# Altium schematic symbol library ldc-hw-library-schematic.SchLib: 26 symbols
Pins are listed as number, name and electrical type; pins without a type are passive.

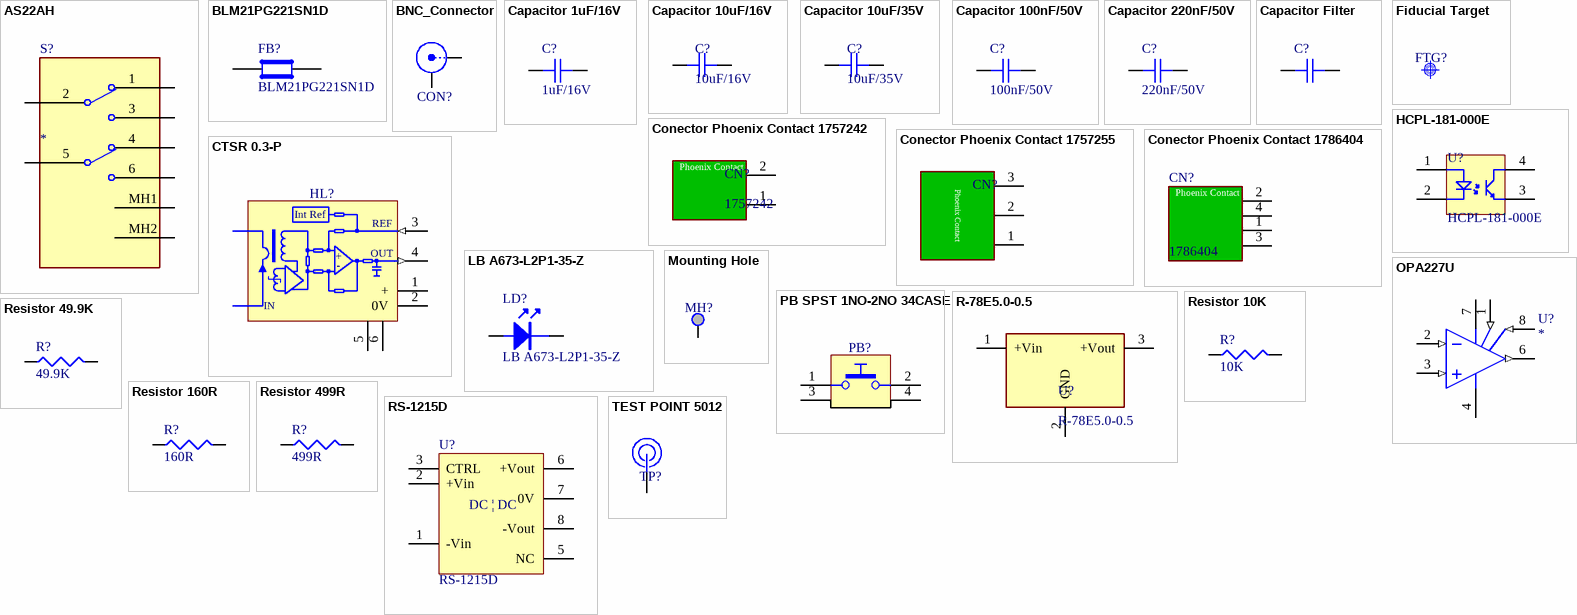
[diagram p0: symbols AS22AH to TEST POINT 5012]

## AS22AH
designator S?
Switch Slide ON None ON DPDT; Manufacturer: NKK Switches; Manufacturer Part Number: AS22AH; Actuator Material: Nylon,Glass,Polyamide,Glass fibre; Mechanical Life: 50000Cycles; Max Current Rating: 100mA; Voltage Rating (AC): 28V; Operating Force: 260gf; Contact Style: Non-Shorting; Switch Travel: 2.5mm; Switch Function: On-On; Actuator Type: Standard; Código LNLS: MC115904; Supplier 1: Digi-Key; RoHS: Yes; Category: Slide Switches; Stock 1: 1475; Pricing 1: 1=6,09000, 10=5,55700, 25=5,05440, 100=4,36620, 300=3,96930, 500=3,67822, 1000=3,41360, 2400=3,27500 (USD); Mount: Through Hole; Contact Material: Bronze; Contact Plating: Gold; Min Operating Temperature: -30°C; Max Operating Temperature: 85°C; Throw Configuration: DPDT; Package Quantity: 1; Max Voltage Rating (AC): 28V; Max Voltage Rating (DC): 28V; Packaging: Tray; Termination: PC Pins; Voltage Rating (DC): 28V; Electrical Life: 50000Cycles; Switching Voltage: 28V; Series: AS; Length: 9.8mm; Depth: 15.2mm; Actuator Length: 2.5mm; Lead Free: Lead Free; RoHS Compliant: Yes; ComponentLink1URL: https://datasheet.ciiva.com/15184/getdatasheetpartid-450041-15184194.pdf?src-supplier=Verical; ComponentLink1Description: https://datasheet.ciiva.com/15184/getdatasheetpartid-450041-15184194.pdf?src-supplier=Verical; ComponentLink2URL: https://datasheet.ciiva.com/26326/702195-da-01-en-schiebes-dpdt-on-on-re-gew-anschl-b-26326751.pdf?src-supplier=Conrad; ComponentLink2Description: https://datasheet.ciiva.com/26326/702195-da-01-en-schiebes-dpdt-on-on-re-gew-anschl-b-26326751.pdf?src-supplier=Conrad; Supplier Part Number 1: 360-2128-ND
footprint AS22AH
pins: 1 NC_1, 2 COM_1, 3 NO_1, 4 NC_2, 5 COM_2, 6 NO_2, MH1, MH2

## BLM21PG221SN1D
designator FB?
FERRITE BEAD 220 OHM 0805 1LN; Manufacturer: Murata; Material: Steel,Ferrite; Impedance: 220R; Tolerance: 25%; Max Current Rating: 2A; Number of Lines: 1; DC Resistance (DCR): 45mR; Test Frequency: 100MHz; Shielding: Unshielded; Código LNLS: AP105046; Manufacturer Part Number: BLM21PG221SN1D; Stock 1: 879222; Pricing 1: 1=0.1, 10=0.081, 25=0.0732, 50=0.0538, 100=0.0464, 250=0.0366, 500=0.0309, 1000=0.0261 (USD); Case/Package: 0805; Number of Pins: 2; Core Material: Ferrite; Case Code (Metric): 2012; Case Code (Imperial): 0805; Contact Plating: Tin,Matte; Min Operating Temperature: -55°C; Max Operating Temperature: 125°C; Package Quantity: 1; Packaging: Tape and Reel; Current Rating: 2A; Max DC Current: 2A; Termination: SMD/SMT; DC Current: 2A; Military Standard: Not; Frequency: 100MHz; Number of Circuits: 1; Current: 2A; Length: 2mm; Height: 0.85mm; Width: 1.25mm; Depth: 1.25mm; Radiation Hardening: No; REACH SVHC: No SVHC; Lead Free: Lead Free; ComponentLink1URL: https://datasheet.ciiva.com/1012/l0110s0100blm21p-1012288.pdf; ComponentLink1Description: https://datasheet.ciiva.com/1012/l0110s0100blm21p-1012288.pdf; ComponentLink2URL: https://datasheet.ciiva.com/11799/0900766b81275e31-11799232.pdf; ComponentLink2Description: https://datasheet.ciiva.com/11799/0900766b81275e31-11799232.pdf; ComponentLink3URL: https://datasheet.ciiva.com/1012/l0110s0100blm21p-1012289.pdf; ComponentLink3Description: https://datasheet.ciiva.com/1012/l0110s0100blm21p-1012289.pdf; ComponentLink4URL: https://datasheet.ciiva.com/14122/anblm21p-data-e-14122214.pdf; ComponentLink4Description: https://datasheet.ciiva.com/14122/anblm21p-data-e-14122214.pdf; ComponentLink5URL: https://datasheet.ciiva.com/3081/l0110s0100blm21p-3081655.pdf; ComponentLink5Description: https://datasheet.ciiva.com/3081/l0110s0100blm21p-3081655.pdf; ComponentLink6URL: https://datasheet.ciiva.com/3081/l0110s0100blm21p-3081656.pdf; ComponentLink6Description: https://datasheet.ciiva.com/3081/l0110s0100blm21p-3081656.pdf; ComponentLink7URL: https://datasheet.ciiva.com/16215/l0110s0100blm21p-16215194.pdf; ComponentLink7Description: https://datasheet.ciiva.com/16215/l0110s0100blm21p-16215194.pdf; ComponentLink8URL: https://datasheet.ciiva.com/8021/1756152-8021596.pdf; ComponentLink8Description: https://datasheet.ciiva.com/8021/1756152-8021596.pdf; ComponentLink9URL: https://datasheet.ciiva.com/30514/1845321-30514028.pdf; ComponentLink9Description: https://datasheet.ciiva.com/30514/1845321-30514028.pdf; ComponentLink10URL: https://datasheet.ciiva.com/8021/1756152-8021598.pdf; ComponentLink10Description: https://datasheet.ciiva.com/8021/1756152-8021598.pdf; ComponentLink11URL: https://datasheet.ciiva.com/1012/l0110s0100blm21p-1012287.pdf; ComponentLink11Description: https://datasheet.ciiva.com/1012/l0110s0100blm21p-1012287.pdf; ComponentLink12URL: https://datasheet.ciiva.com/29348/442529-da-01-en-chip-drossel-0805-220r-2000ma-2-0x1-25mm-29348007.pdf; ComponentLink12Description: https://datasheet.ciiva.com/29348/442529-da-01-en-chip-drossel-0805-220r-2000ma-2-0x1-25mm-29348007.pdf; Supplier 1: RSComponents; Supplier Part Number 1: 7241532P
footprint Ferrite_Bead_0805
pins: 1, 2

## BNC_Connector
designator CON?  (value not drawn)
Connector BNC Female 0Hz To 2GHz 50 Ohm Solder Right Angle Through Hole Gold Tray; Manufacturer: Molex; Manufacturer Part Number: 0731375003; Body Material: ZINC ALLOY; Body Plating: Nickel; Dielectric Material: PP; Center Contact Plating: Tin; Frequency: 2Hz; Impedance: 50R; Connector Type: BNC,Receptacle; Operating Frequency: 0 to 2Hz; Código LNLS: AP107369; ComponentLink1Description: Datasheet; Supplier 1: Digi-Key; RoHS: Yes; Category: RF / Coaxial Connectors; Stock 1: 5198; Pricing 1: 1=2,54000, 10=2,16200, 80=1,78600, 945=1,41000, 2400=1,31600 (USD); Mount: Through Hole,Panel,Bulkhead; Contact Plating: Gold; Contact Material: Bronze; Insulation Material: Polyester; Housing Color: Black; Min Operating Temperature: -20°C; Max Operating Temperature: 70°C; Packaging: Bulk; Package Quantity: 384; Termination: Solder; Orientation: Right Angle; Series: 73137; Fastening Type: Bayonet; Length: 35.18mm; Depth: 14.76mm; ComponentLink2URL: https://datasheet.ciiva.com/7002/731375003-sd-7002562.pdf?src-supplier=Digi-Key; ComponentLink2Description: https://datasheet.ciiva.com/7002/731375003-sd-7002562.pdf?src-supplier=Digi-Key; Supplier Part Number 1: WM5514-ND
footprint BNC_RIGHTANGLE (BNC Jack Female Socket Right Angle)
pins: 1 X, 2 Y

## Capacitor 1uF/16V
designator C?, comment 1uF/16V
CAP CER 1UF 16V X7R 0603; Manufacturer: TDK; Manufacturer Part Number: C1608X7R1C105K080AC; Dielectric Material: Ceramic; Tolerance: 10%; Código LNLS: AP105441; Supplier 1: Newark; RoHS: Yes; Category: Ceramic Capacitors; Stock 1: 68000; Pricing 1: 1=0,02900, 4000=0,02800, 8000=0,02600 (USD); Mount: Surface Mount; Case/Package: 0603; Case Code (Metric): 1608; Case Code (Imperial): 0603; Weight: 7.1E-05oz; Min Operating Temperature: -55°C; Max Operating Temperature: 125°C; Capacitance: 1uF; Dielectric: X7R; Voltage Rating: 16V; Packaging: Tape and Reel; Package Quantity: 1; Voltage Rating (DC): 16V; Termination: SMD/SMT; Voltage: 16V; Series: C; Construction: Flat; Resistor Type: Ceramic; Length: 1.6mm; Width: 0.031inch; Height: 0.8mm; Depth: 0.8mm; Thickness: 0.037inch; Radiation Hardening: No; REACH SVHC: No SVHC; Lead Free: Lead Free; RoHS Compliant: Yes; ComponentLink1URL: https://datasheet.ciiva.com/11788/0900766b80c1bb00-11788075.pdf?src-supplier=RSComponents; ComponentLink1Description: https://datasheet.ciiva.com/11788/0900766b80c1bb00-11788075.pdf?src-supplier=RSComponents; ComponentLink2URL: https://datasheet.ciiva.com/22648/1796654-22648704.pdf?src-supplier=Element14; ComponentLink2Description: https://datasheet.ciiva.com/22648/1796654-22648704.pdf?src-supplier=Element14; ComponentLink3URL: https://datasheet.ciiva.com/6156/1571323-6156168.pdf?src-supplier=Farnell; ComponentLink3Description: https://datasheet.ciiva.com/6156/1571323-6156168.pdf?src-supplier=Farnell; ComponentLink4URL: https://datasheet.ciiva.com/6250/tdkmlcccaprange-6250871.pdf?src-supplier=Digi-Key; ComponentLink4Description: https://datasheet.ciiva.com/6250/tdkmlcccaprange-6250871.pdf?src-supplier=Digi-Key; ComponentLink5URL: https://datasheet.ciiva.com/48671/e412-c-48671305.pdf?src-supplier=Avnet; ComponentLink5Description: https://datasheet.ciiva.com/48671/e412-c-48671305.pdf?src-supplier=Avnet; ComponentLink6URL: https://datasheet.ciiva.com/26285/3025c1608x7r1c105k080ac-26285242.pdf?src-supplier=Onlinecomponents.com; ComponentLink6Description: https://datasheet.ciiva.com/26285/3025c1608x7r1c105k080ac-26285242.pdf?src-supplier=Onlinecomponents.com; ComponentLink7URL: https://datasheet.ciiva.com/22694/1796654-22694127.pdf?src-supplier=Element14; ComponentLink7Description: https://datasheet.ciiva.com/22694/1796654-22694127.pdf?src-supplier=Element14; ComponentLink8URL: https://datasheet.ciiva.com/22749/1744655-22749595.pdf?src-supplier=Element14; ComponentLink8Description: https://datasheet.ciiva.com/22749/1744655-22749595.pdf?src-supplier=Element14; ComponentLink9URL: https://datasheet.ciiva.com/16199/e412-c-16199815.pdf?src-supplier=Future+Electronics; ComponentLink9Description: https://datasheet.ciiva.com/16199/e412-c-16199815.pdf?src-supplier=Future+Electronics; ComponentLink10URL: https://datasheet.ciiva.com/15192/getdatasheetpartid-715881-15192029.pdf?src-supplier=Verical; ComponentLink10Description: https://datasheet.ciiva.com/15192/getdatasheetpartid-715881-15192029.pdf?src-supplier=Verical; ComponentLink11URL: https://datasheet.ciiva.com/17487/e412-c-17487343.pdf?src-supplier=Avnet+Europe; ComponentLink11Description: https://datasheet.ciiva.com/17487/e412-c-17487343.pdf?src-supplier=Avnet+Europe; Supplier Part Number 1: 87R3669
footprint C0603
pins: 1, 2

## Capacitor 10uF/16V
designator C?, comment 10uF/16V
CAP CER 10UF 16V X5R 0603; Manufacturer: TDK; Manufacturer Part Number: C1608X5R1C106M080AB; Dielectric Material: Ceramic; Tolerance: 20%; Código LNLS: AP105460; Supplier 1: Digi-Key; Stock 1: 85682; Pricing 1: 1=0.75, 10=0.553, 100=0.3795, 500=0.3004, 1000=0.253 (USD); Case/Package: 0603; Weight: 7.1E-05oz; Case Code (Metric): 1608; Case Code (Imperial): 0603; Min Operating Temperature: -55°C; Max Operating Temperature: 85°C; Package Quantity: 4000; Capacitance: 10uF; Voltage Rating: 16V; Packaging: Tape and Reel; Voltage Rating (DC): 16V; Dielectric: X5R; Termination: SMD/SMT; Composition: Ceramic; Length: 1.6mm; Height: 0.8mm; Width: 0.031inch; Thickness: 0.039inch; Depth: 0.8mm; Radiation Hardening: No; REACH SVHC: No SVHC; Lead Free: Lead Free; ComponentLink1URL: https://datasheet.ciiva.com/26946/getdatasheetpartid-727879-26946512.pdf; ComponentLink1Description: https://datasheet.ciiva.com/26946/getdatasheetpartid-727879-26946512.pdf; ComponentLink2URL: https://datasheet.ciiva.com/24216/mlcc-commercial-general-en-24216005.pdf; ComponentLink2Description: https://datasheet.ciiva.com/24216/mlcc-commercial-general-en-24216005.pdf; ComponentLink3URL: https://datasheet.ciiva.com/16449/mlcc-commercial-general-en-16449581.pdf; ComponentLink3Description: https://datasheet.ciiva.com/16449/mlcc-commercial-general-en-16449581.pdf; Supplier Part Number 1: 445-9065-1-ND
footprint C0603
pins: 1, 2

## Capacitor 10uF/35V
designator C?, comment 10uF/35V
CAP CER 10UF 35V X5R 0805; Manufacturer: TDK; Manufacturer Part Number: C2012X5R1V106K085AC; Dielectric Material: Ceramic; Tolerance: 10%; Código LNLS: AP105062; Supplier 1: Digi-Key; Stock 1: 56135; Pricing 1: 1=0.73, 10=0.519, 100=0.3416, 500=0.253, 1000=0.2151 (USD); Case/Package: 0805; Weight: 0.000194oz; Case Code (Metric): 2012; Case Code (Imperial): 0805; Min Operating Temperature: -55°C; Max Operating Temperature: 85°C; Package Quantity: 1; Packaging: Tape and Reel; Capacitance: 10uF; Voltage Rating: 35V; Dielectric: X5R; Termination: SMD/SMT; Voltage Rating (DC): 35V; Length: 0.079inch; Height: 0.85mm; Width: 0.049inch; Thickness: 0.039inch; REACH SVHC: No SVHC; Lead Free: Lead Free; ComponentLink1URL: https://datasheet.ciiva.com/14894/tdkmlcccaprange-14894527.pdf; ComponentLink1Description: https://datasheet.ciiva.com/14894/tdkmlcccaprange-14894527.pdf; Supplier Part Number 1: 445-14417-1-ND
footprint C0805
pins: 1, 2

## Capacitor 100nF/50V
designator C?, comment 100nF/50V
CAP CER 0.1UF 50V X7R 0603; Manufacturer: TDK; Manufacturer Part Number: C1608X7R1H104K080AA; Dielectric Material: Ceramic; Capacitance: 100nF; Tolerance: 10%; Código LNLS: AP107349; Supplier 1: Digi-Key; RoHS: Yes; Category: Ceramic Capacitors; Stock 1: 4478231; Pricing 1: 1=0,11000, 10=0,08000, 50=0,04520, 100=0,03750, 500=0,02630, 1000=0,02178 (USD); Mount: Surface Mount; Case/Package: 0603; Number of Pins: 2; Case Code (Imperial): 0603; Case Code (Metric): 1608; Weight: 7.1E-05oz; Min Operating Temperature: -55°C; Max Operating Temperature: 125°C; Dielectric: X7R; Voltage Rating: 50V; Packaging: Tape and Reel; Package Quantity: 1; Termination: SMD/SMT; Voltage: 50V; Construction: Flat; Voltage Rating (DC): 50V; Resistor Type: Ceramic; Series: C; Length: 1.6mm; Width: 0.031inch; Height: 0.8mm; Depth: 0.8mm; Thickness: 0.037inch; Radiation Hardening: No; REACH SVHC: No SVHC; RoHS Compliant: Yes; Lead Free: Lead Free; ComponentLink1URL: https://datasheet.ciiva.com/14498/1756137-14498091.pdf?src-supplier=Farnell; ComponentLink1Description: https://datasheet.ciiva.com/14498/1756137-14498091.pdf?src-supplier=Farnell; ComponentLink2URL: https://datasheet.ciiva.com/11788/0900766b80c1bb00-11788073.pdf?src-supplier=RSComponents; ComponentLink2Description: https://datasheet.ciiva.com/11788/0900766b80c1bb00-11788073.pdf?src-supplier=RSComponents; ComponentLink3URL: https://datasheet.ciiva.com/6293/tdkmlcccaprange-6293190.pdf?src-supplier=Digi-Key; ComponentLink3Description: https://datasheet.ciiva.com/6293/tdkmlcccaprange-6293190.pdf?src-supplier=Digi-Key; ComponentLink4URL: https://datasheet.ciiva.com/6293/tdkmlcccaprange-6293193.pdf?src-supplier=Digi-Key; ComponentLink4Description: https://datasheet.ciiva.com/6293/tdkmlcccaprange-6293193.pdf?src-supplier=Digi-Key; ComponentLink5URL: https://datasheet.ciiva.com/6293/tdkmlcccaprange-6293194.pdf?src-supplier=Digi-Key; ComponentLink5Description: https://datasheet.ciiva.com/6293/tdkmlcccaprange-6293194.pdf?src-supplier=Digi-Key; ComponentLink6URL: https://datasheet.ciiva.com/22749/1744655-22749597.pdf?src-supplier=Element14; ComponentLink6Description: https://datasheet.ciiva.com/22749/1744655-22749597.pdf?src-supplier=Element14; ComponentLink7URL: https://datasheet.ciiva.com/17487/e412-c-17487370.pdf?src-supplier=Avnet+Europe; ComponentLink7Description: https://datasheet.ciiva.com/17487/e412-c-17487370.pdf?src-supplier=Avnet+Europe; Supplier Part Number 1: 445-1314-1-ND
footprint C0603
pins: 1, 2

## Capacitor 220nF/50V
designator C?, comment 220nF/50V
CAP CER 220NF 50V X7R 0805; Manufacturer: Murata; Manufacturer Part Number: GRM21BR71H224MA01L; Tolerance: 20%; Código LNLS: AP112018; Supplier 1: Digi-Key; RoHS: Yes; Category: Ceramic Capacitors; Stock 1: 27774; Pricing 1: 1=0,37000, 10=0,25200, 50=0,16800, 100=0,14270, 500=0,10074, 1000=0,08815 (USD); Mount: Surface Mount; Case/Package: 0805; Case Code (Metric): 2012; Case Code (Imperial): 0805; Min Operating Temperature: -55°C; Max Operating Temperature: 125°C; Package Quantity: 1; Capacitance: 220nF; Packaging: Tape and Reel; Voltage Rating: 50V; Dielectric: X7R; Termination: SMD/SMT; Voltage Rating (DC): 50V; Series: GRM; Construction: Flat; Length: 2mm; Width: 0.049inch; Height: 1.25mm; Thickness: 0.053inch; Depth: 1.25mm; Radiation Hardening: No; Lead Free: Lead Free; RoHS Compliant: Yes; ComponentLink1URL: https://datasheet.ciiva.com/5421/product-5421097.pdf?src-supplier=Mouser; ComponentLink1Description: https://datasheet.ciiva.com/5421/product-5421097.pdf?src-supplier=Mouser; ComponentLink2URL: https://datasheet.ciiva.com/136/partnumbering-e-01-136537.pdf?src-supplier=Digi-Key; ComponentLink2Description: https://datasheet.ciiva.com/136/partnumbering-e-01-136537.pdf?src-supplier=Digi-Key; ComponentLink3URL: https://datasheet.ciiva.com/136/partnumbering-e-01-136536.pdf?src-supplier=Digi-Key; ComponentLink3Description: https://datasheet.ciiva.com/136/partnumbering-e-01-136536.pdf?src-supplier=Digi-Key; ComponentLink4URL: https://datasheet.ciiva.com/136/partnumbering-e-01-136538.pdf?src-supplier=Digi-Key; ComponentLink4Description: https://datasheet.ciiva.com/136/partnumbering-e-01-136538.pdf?src-supplier=Digi-Key; Supplier Part Number 1: 490-1671-1-ND
footprint C0805
pins: 1, 2

## Capacitor Filter
designator C?
CAP CER 0805
footprint C0805 - Filter
pins: 1, 2

## Conector Phoenix Contact 1757242
designator CN?, comment 1757242
TERM BLOCK HDR 2POS 90DEG 5.08MM; Manufacturer: Phoenix Contact; Max Current Rating: 12A; Number of Poles: 2; Voltage Rating: 250V; Number of Levels: 1; Current: 15A; Voltage: 300V; Gender: Male; Voltage Rating (DC): 320V; Approvals: UL,CSA,VDE,EN; Código LNLS: MT106521; Supplier 1: Digi-Key; Manufacturer Part Number: 1757242; Stock 1: 5888; Pricing 1: 1=0.59, 10=0.564, 50=0.539, 100=0.5243, 250=0.49, 500=0.4508, 1000=0.4165, 2500=0.3969, 5000=0.3724 (USD); Mount: Through Hole; Weight: 5.396916oz; Contact Plating: Tin; Colour: Green,Grey; Housing Colour: Green; Housing Material: Polyamide; Current Rating: 12A; Package Quantity: 50; Packaging: Bulk; Number of Positions: 2; Termination: Solder; Number of Positions Per Level: 2; Number of Contacts: 2; Number of Rows: 1; Orientation: Right Angle; Length: 12.16mm; Pitch: 5.08mm; Width: 5.08mm; Depth: 12mm; REACH SVHC: No SVHC; Lead Free: Lead Free; Flammability Rating: UL94 V-0; ComponentLink1URL: https://datasheet.ciiva.com/15197/getdatasheetpartid-176350-15197328.pdf; ComponentLink1Description: https://datasheet.ciiva.com/15197/getdatasheetpartid-176350-15197328.pdf; ComponentLink2URL: https://datasheet.ciiva.com/16096/1757242-16096402.pdf; ComponentLink2Description: https://datasheet.ciiva.com/16096/1757242-16096402.pdf; ComponentLink3URL: https://datasheet.ciiva.com/7630/100955-7630839.pdf; ComponentLink3Description: https://datasheet.ciiva.com/7630/100955-7630839.pdf; ComponentLink4URL: https://datasheet.ciiva.com/795/1757242-795407.pdf; ComponentLink4Description: https://datasheet.ciiva.com/795/1757242-795407.pdf; ComponentLink5URL: https://datasheet.ciiva.com/33105/1757242-33105868.pdf; ComponentLink5Description: https://datasheet.ciiva.com/33105/1757242-33105868.pdf; ComponentLink6URL: https://datasheet.ciiva.com/29210/569017-da-01-en-grundgehaeuse-1757242-250-st-29210285.pdf; ComponentLink6Description: https://datasheet.ciiva.com/29210/569017-da-01-en-grundgehaeuse-1757242-250-st-29210285.pdf; Supplier Part Number 1: 277-1106-ND
footprint Conector Phoenix Contact 1757242
pins: 1, 2

## Conector Phoenix Contact 1757255
designator CN?, comment 1757255  (value not drawn)
TERM BLOCK HDR 3POS 90DEG 5.08MM; Manufacturer: Phoenix Contact; Max Current Rating: 12A; Number of Poles: 3; Voltage Rating: 250V; Number of Levels: 1; Current: 15A; Voltage: 300V; Gender: Male; Voltage Rating (DC): 320V; Connector Type: Plug; Approvals: UL,CSA,VDE,EN; Código LNLS: MT112921; Supplier 1: Digi-Key; Manufacturer Part Number: 1757255; Stock 1: 11643; Pricing 1: 1=0.98, 10=0.943, 50=0.902, 100=0.8774, 250=0.82, 500=0.7544, 1000=0.697, 2500=0.6642, 5000=0.6232 (USD); Mount: Through Hole; Weight: 5.396916oz; Colour: Green,Grey; Contact Plating: Tin; Housing Colour: Green; Housing Material: Polybutylene; Contact Material: Tin; Number of Rows: 1; Current Rating: 12A; Package Quantity: 50; Packaging: Bulk; Number of Positions: 3; Termination: Solder; Number of Positions Per Level: 3; Number of Contacts: 3; Orientation: Right Angle; Length: 17.24mm; Height: 12.1mm; Pitch: 5.08mm; Depth: 12mm; Width: 17.16mm; REACH SVHC: No SVHC; Lead Free: Lead Free; Flammability Rating: UL94 V-0; ComponentLink1URL: https://datasheet.ciiva.com/15197/getdatasheetpartid-176351-15197329.pdf; ComponentLink1Description: https://datasheet.ciiva.com/15197/getdatasheetpartid-176351-15197329.pdf; ComponentLink2URL: https://datasheet.ciiva.com/16096/1757255-16096404.pdf; ComponentLink2Description: https://datasheet.ciiva.com/16096/1757255-16096404.pdf; ComponentLink3URL: https://datasheet.ciiva.com/7630/1697152-7630840.pdf; ComponentLink3Description: https://datasheet.ciiva.com/7630/1697152-7630840.pdf; ComponentLink4URL: https://datasheet.ciiva.com/795/1757255-795421.pdf; ComponentLink4Description: https://datasheet.ciiva.com/795/1757255-795421.pdf; ComponentLink5URL: https://datasheet.ciiva.com/29210/569707-da-01-en-grundgehaeuse-1757255-250-st-29210878.pdf; ComponentLink5Description: https://datasheet.ciiva.com/29210/569707-da-01-en-grundgehaeuse-1757255-250-st-29210878.pdf; Supplier Part Number 1: 277-1107-ND
footprint Conector Phoenix Contact 1757255
pins: 1, 2, 3

## Conector Phoenix Contact 1786404
designator CN?, comment 1786404
PLUG TERM BLOCK HDR 2POS 90DEG 5.08MM; Manufacturer: Phoenix Contact; Voltage Rating: 320V; Current Rating: 12A; Number of Poles: 2; Number of Levels: 1; Current: 10A; Voltage: 300V; Connector Type: Socket; Approvals: UL,CSA,VDE,CB,GOST; Código LNLS: MC113986; Supplier 1: Digi-Key; Manufacturer Part Number: 1786404; RoHS: Yes; Category: Terminal Blocks; Stock 1: 2375; Pricing 1: 1=2,32000, 10=2,25800, 50=2,11000, 100=1,94120, 250=1,79348, 500=1,70910, 1000=1,62470 (USD); Mount: Through Hole; Color: Green; Contact Plating: Tin; Contact Material: Tin; Weight: 5.78493oz; Housing Color: Green; Housing Material: Polyamide; Packaging: Bulk; Series: IC; Package Quantity: 50; Termination: Solder; Number of Rows: 1; Number of Positions Per Level: 2; Max Current Rating: 12A; Number of Positions: 2; Number of Contacts: 2; Orientation: Right Angle; Type: Integrated Circuit (IC); Length: 12.16mm; Width: 19mm; Height: 13.7mm; Pitch: 5.08mm; Depth: 19mm; RoHS Compliant: Yes; Lead Free: Lead Free; Flammability Rating: UL94 V-0; ComponentLink1URL: https://datasheet.ciiva.com/16096/1786404-16096800.pdf?src-supplier=Onlinecomponents.com; ComponentLink1Description: https://datasheet.ciiva.com/16096/1786404-16096800.pdf?src-supplier=Onlinecomponents.com; ComponentLink2URL: https://datasheet.ciiva.com/6747/1786404-6747449.pdf?src-supplier=Digi-Key; ComponentLink2Description: https://datasheet.ciiva.com/6747/1786404-6747449.pdf?src-supplier=Digi-Key; ComponentLink3URL: https://datasheet.ciiva.com/11748/0900766b800b6097-11748807.pdf?src-supplier=RSComponents; ComponentLink3Description: https://datasheet.ciiva.com/11748/0900766b800b6097-11748807.pdf?src-supplier=RSComponents; ComponentLink4URL: https://datasheet.ciiva.com/29209/567660-da-01-de-grundgehaeuse-1786404-50-st-29209089.pdf?src-supplier=Conrad; ComponentLink4Description: https://datasheet.ciiva.com/29209/567660-da-01-de-grundgehaeuse-1786404-50-st-29209089.pdf?src-supplier=Conrad; Supplier Part Number 1: 277-5986-ND
footprint Conector Phoenix Contact 1786404
pins: 1, 2, 3, 4

## CTSR 0.3-P
designator HL?
SENSOR CURRENT FLUX 300MA AC/DC; Manufacturer: LEM; Manufacturer Part Number: CTSR0.3-P; Frequency: 3.5kHz; Operating Supply Voltage: 5.25V; Number of Channels: 1; Response Time: 50us; Max Supply Current: 21.6mA; Polarity: Bidirectional; Accuracy: 1.9%; Min Supply Voltage (DC): 4.75V; Linearity: 0.5%; Wire/Cable Diameter: 20.3mm; Overall Height: 44.6mm; Overall Depth: 17.9mm; Código LNLS: MC113908; Supplier 1: Digi-Key; RoHS: Yes; Category: Current Sensors; Stock 1: 1441; Pricing 1: 1=38,39000, 5=36,64400, 10=33,15500, 25=30,53760, 50=27,04760, 100=26,17500 (USD); Mount: Through Hole,PCB; Case/Package: Module; Min Operating Temperature: -40°C; Max Operating Temperature: 105°C; Packaging: Bulk; Package Quantity: 25; Max Supply Voltage (DC): 5.25V; Current Sensing: 300mA; Series: CTSR; REACH SVHC: No SVHC; ComponentLink1URL: https://datasheet.ciiva.com/2812/ctsr20series-2812567.pdf?src-supplier=Digi-Key; ComponentLink1Description: https://datasheet.ciiva.com/2812/ctsr20series-2812567.pdf?src-supplier=Digi-Key; ComponentLink2URL: https://datasheet.ciiva.com/30482/0900766b81272e9d-30482890.pdf?src-supplier=RSComponents; ComponentLink2Description: https://datasheet.ciiva.com/30482/0900766b81272e9d-30482890.pdf?src-supplier=RSComponents; Supplier Part Number 1: 398-1112-ND
footprint LEM_CTSR 0.3-P (LEM Current Transducer, Body 45x17.9mm, CTSR Series)
pins: 1 + (power), 2 0V (power), 3 REF (in), 4 OUT (out), 5 (power), 6 (power)
text: Int Ref; -; IN

## Fiducial Target
designator FTG?, comment Use only in PCB  (value not drawn)
Fiducial Target
footprint FIDUCIAL_TOP_C100-200 (Round Fiducial Target, Top Layer, 1.0mm, Top Solder 2.0mm, Keepout =2.0mm)

## HCPL-181-000E
designator U?
OPTOISO 3.75KV TRANSISTOR 4SOIC; Manufacturer: Broadcom Avago; Number of Channels: 1; Rise Time: 18000ns; Forward Voltage: 1.4V; Forward Current: 50mA; Collector Emitter Voltage (VCEO): 80V; Max Power Dissipation: 170mW; Reverse Breakdown Voltage: 6V; Collector Emitter Saturation Voltage: 200mV; Current Transfer Ratio: 600%; Approvals: UL,CSA,VDE; Código LNLS: MT106530; Supplier 1: Digi-Key; Manufacturer Part Number: HCPL-181-000E; Stock 1: 71062; Pricing 1: 1=0.61, 10=0.472, 25=0.3932, 100=0.3388, 250=0.3025, 500=0.2602, 1000=0.2009 (USD); Mount: Surface Mount; Case/Package: SOIC; Number of Pins: 4; Min Operating Temperature: -55°C; Max Operating Temperature: 100°C; Packaging: Tape and Reel; Max Output Voltage: 80V; Output Current per Channel: 50mA; Isolation Voltage: 3.75kV; Package Quantity: 1; Reverse Voltage (DC): 6V; Max Collector Current: 50mA; Fall Time: 18000ns; Max Input Current: 50mA; Number of Elements: 1; Power Dissipation: 170mW; Radiation Hardening: No; REACH SVHC: No SVHC; ComponentLink1URL: https://datasheet.ciiva.com/14169/hcpl-181-eng-tds-14169346.pdf; ComponentLink1Description: https://datasheet.ciiva.com/14169/hcpl-181-eng-tds-14169346.pdf; ComponentLink2URL: https://datasheet.ciiva.com/11772/0900766b80db8748-11772388.pdf; ComponentLink2Description: https://datasheet.ciiva.com/11772/0900766b80db8748-11772388.pdf; ComponentLink3URL: https://datasheet.ciiva.com/27052/1549927-27052468.pdf; ComponentLink3Description: https://datasheet.ciiva.com/27052/1549927-27052468.pdf; ComponentLink4URL: https://datasheet.ciiva.com/8065/317140-8065622.pdf; ComponentLink4Description: https://datasheet.ciiva.com/8065/317140-8065622.pdf; ComponentLink5URL: https://datasheet.ciiva.com/15118/getdatasheetpartid-138956-15118774.pdf; ComponentLink5Description: https://datasheet.ciiva.com/15118/getdatasheetpartid-138956-15118774.pdf; ComponentLink6URL: https://datasheet.ciiva.com/8065/317140-8065623.pdf; ComponentLink6Description: https://datasheet.ciiva.com/8065/317140-8065623.pdf; ComponentLink7URL: https://datasheet.ciiva.com/29301/140247-da-01-en-fototransistor-optokoppler-hcpl-181-000e-29301539.pdf; ComponentLink7Description: https://datasheet.ciiva.com/29301/140247-da-01-en-fototransistor-optokoppler-hcpl-181-000e-29301539.pdf; Supplier Part Number 1: 516-1646-1-ND
footprint HCPL-181-000E
pins: 1 A, 2 K, 3 E, 4 C

## LB A673-L2P1-35-Z
designator LD?
LED BLUE CLEAR 2SMD R/A; Manufacturer: OSRAM Opto Semiconductors Inc.; Lens Color: Colorless; Millicandela Rating: 35mcd; Lens Style/Size: Round with Flat Top, 2.40mm; Voltage - Forward (Vf) (Typ): 3.1V; Current - Test: 10mA; Viewing Angle: 120°; Wavelength - Dominant: 471nm; Wavelength - Peak: 466nm; Código LNLS: AP112060; Supplier 1: Digi-Key; Manufacturer Part Number: LB A673-L2P1-35-Z; RoHS: RoHS Compliant; Category: Optoelectronics; Stock 1: 7315; Pricing 1: 1=0.7, 10=0.548, 25=0.454, 100=0.3914, 250=0.3444, 500=0.29744, 1000=0.26091 (USD); Packaging: Cut Tape (CT); Part Status: Active; Color: Blue; Lens Transparency: Clear; Mounting Type: Surface Mount, Right Angle; Features: -; Package / Case: 2-SMD, Boomerang; Supplier Device Package: SMD; Size / Dimension: 4.00mm L x 3.60mm W; Height (Max): 4.20mm; ComponentLink1URL: http://www.osram-os.com/Graphics/XPic4/00180889_0.pdf; ComponentLink1Description: http://www.osram-os.com/Graphics/XPic4/00180889_0.pdf; Supplier Part Number 1: 475-1379-1-ND
footprint 2-SMD (2-SMD, Boomerang)
pins: 1, 2

## Mounting Hole
designator MH?, comment Use only in PCB  (value not drawn)
Mounting Hole
footprint Mounting Hole
pins: 1

## OPA227U
designator U?
TEXAS INSTRUMENTS - OPA227U - OP AMP, PRECISION, SOIC8, 227; Slew Rate: 2.3V/µs; Input Offset Voltage (Vos): 75uV; Input Bias Current: 10nA; Gain Bandwidth Product: 8MHz; Number of Circuits: 1; Operating Supply Current: 3.7mA; Max Dual Supply Voltage: 18V; Voltage Gain: 160dB; Nominal Supply Current: 3.8mA; Min Dual Supply Voltage: 2.5V; Common Mode Rejection Ratio: 120dB; Output Current: 45mA; Power Supply Rejection Ratio (PSRR): 126.02dB; Dual Supply Voltage: 9V; Código LNLS: AP104167; Supplier 1: Mouser; Manufacturer: Texas Instruments; Manufacturer Part Number: OPA227U; RoHS: Yes; Category: Amplifiers - Op Amps, Buffer, Instrumentation; Stock 1: 34; Pricing 1: 1=7,63000, 10=6,89000, 25=6,57000, 50=6,57000, 100=5,70000, 1000=5,44000, 10000=5,44000 (USD); Case/Package: D; Number of Pins: 8; Contact Plating: Gold; Min Operating Temperature: -40°C; Max Operating Temperature: 85°C; Packaging: Rail/Tube; Package Quantity: 75; Bandwidth: 8MHz; Number of Channels: 1; Nominal Gain Bandwidth Product: 8MHz; Max I/O Voltage: 75uV; Output Current per Channel: 45mA; Unity Gain Bandwidth Product: 8MHz; Number of Elements: 1; Max Supply Voltage: 18V; Number of Amplifiers: 1; Length: 4.9mm; Width: 3.91mm; Height: 1.58mm; Radiation Hardening: No; Lead Free: Lead Free; RoHS Compliant: Yes; REACH SVHC: No SVHC; ComponentLink1URL: https://datasheet.ciiva.com/26853/opa227u-26853600.pdf?src-supplier=IIIC; ComponentLink1Description: https://datasheet.ciiva.com/26853/opa227u-26853600.pdf?src-supplier=IIIC; ComponentLink2URL: https://datasheet.ciiva.com/7738/1830992-7738349.pdf?src-supplier=Element14; ComponentLink2Description: https://datasheet.ciiva.com/7738/1830992-7738349.pdf?src-supplier=Element14; ComponentLink3URL: https://datasheet.ciiva.com/1800/opa227-1800390.pdf?src-supplier=Digi-Key; ComponentLink3Description: https://datasheet.ciiva.com/1800/opa227-1800390.pdf?src-supplier=Digi-Key; Supplier Part Number 1: 595-OPA227U
footprint SOIC_8_N (SOIC, 8-Leads, Body 4.9x3.9mm, Pitch 1.27mm, IPC Medium Density)
pins: 1 Trim (in), 2 -In (in), 3 +In (in), 4 V- (power), 5 NC hidden, 6 Output (out), 7 V+ (power), 8 Trim (in)

## PB SPST 1NO-2NO 34CASE
designator PB?, comment SKHHLMA010  (value not drawn)
PCB Switch 12 VDC 50 mA, SKHHLMA010, Alps; Manufacturer: Alps Electric; Mechanical Life: 1000000Cycles; Operating Force: 0.98N; Throw Configuration: SPST; Contact Resistance: 100mR; Max Voltage Rating (DC): 12V; Contact Current Rating: 50mA; Illumination Type: Illuminated; Actuator Type: STEM; Actuator Length: 3.85mm; Código LNLS: MC115903; Author: CERN DEM JLC; Supplier 1: Mouser; Manufacturer Part Number: SKHHLMA010; RoHS: Yes; Category: Tactile Switches; Stock 1: 5892; Pricing 1: 1=0,77000, 10=0,77000, 50=0,73100, 100=0,70200, 500=0,65800, 1000=0,65800, 10000=0,65800 (USD); Mount: Through Hole; Color: Black; Min Operating Temperature: -20°C; Max Operating Temperature: 85°C; Termination: Solder; Packaging: Bulk; Insulation Resistance: 100MR; Current Rating: 50mA; Package Quantity: 1000; Voltage Rating (DC): 12V; Max Current Rating: 50mA; Electrical Life: 1000000Cycles; Orientation: Right Angle; Series: SKHH; Length: 7.5mm; Depth: 7.85mm; Radiation Hardening: No; REACH SVHC: Unknown; Lead Free: Lead Free; RoHS Compliant: Yes; ComponentLink1URL: https://datasheet.ciiva.com/25603/0900766b810d5f21-25603887.pdf?src-supplier=RSComponents; ComponentLink1Description: https://datasheet.ciiva.com/25603/0900766b810d5f21-25603887.pdf?src-supplier=RSComponents; ComponentLink2URL: https://datasheet.ciiva.com/14142/03564812-14142526.pdf?src-supplier=Distrelec; ComponentLink2Description: https://datasheet.ciiva.com/14142/03564812-14142526.pdf?src-supplier=Distrelec; Supplier Part Number 1: 688-SKHHLM
footprint PB_ALPS_SKHHLMA010
pins: 1, 2, 3, 4

## R-78E5.0-0.5
designator U?
CONV DC/DC 5V 500MA OUT THRU; Manufacturer: Recom; Power Rating: 2.5W; Min Input Voltage (DC): 7V; Max Input Voltage (DC): 28V; Number of Outputs: 1; Efficiency: 92%; Isolation: Non-Isolated; Max Power Dissipation: 3W; Código LNLS: AP105018; Supplier 1: Digi-Key; Manufacturer Part Number: R-78E5.0-0.5; Stock 1: 10893; Pricing 1: 1=2.7, 5=2.656, 10=2.618, 25=2.5412, 50=2.464, 100=2.387, 250=2.31, 500=2.156 (USD); Mount: Through Hole,PCB; Case/Package: SIP; Number of Pins: 3; Weight: 2g; Min Operating Temperature: -40°C; Max Operating Temperature: 85°C; Nominal Output Voltage: 5V; Max Output Current: 500mA; Output Current: 500mA; Output Voltage: 5V; Output Power: 2.5W; Packaging: Rail/Tube; Min Input Voltage: 7V; Package Quantity: 42; Voltage - Output 1: 5V; Current - Output 1: 500mA; Max Input Voltage: 28V; Max Output Power: 2.5W; Max Output Voltage: 5V; Length: 11.6mm; Height: 10.4mm; Width: 8.5mm; Depth: 11.6mm; REACH SVHC: No SVHC; Lead Free: Lead Free; ComponentLink1URL: https://datasheet.ciiva.com/7618/1518729-7618512.pdf; ComponentLink1Description: https://datasheet.ciiva.com/7618/1518729-7618512.pdf; ComponentLink2URL: https://datasheet.ciiva.com/16366/r-78exx-0-5-16366357.pdf; ComponentLink2Description: https://datasheet.ciiva.com/16366/r-78exx-0-5-16366357.pdf; ComponentLink3URL: https://datasheet.ciiva.com/14155/r78xx-05-eng-datasheet-14155703.pdf; ComponentLink3Description: https://datasheet.ciiva.com/14155/r78xx-05-eng-datasheet-14155703.pdf; ComponentLink4URL: https://datasheet.ciiva.com/25627/0900766b810a2db7-25627246.pdf; ComponentLink4Description: https://datasheet.ciiva.com/25627/0900766b810a2db7-25627246.pdf; ComponentLink5URL: https://datasheet.ciiva.com/2168/r-78exx-0-5-02-2168671.pdf; ComponentLink5Description: https://datasheet.ciiva.com/2168/r-78exx-0-5-02-2168671.pdf; Supplier Part Number 1: 945-1648-5-ND
footprint R-78E5.0-0.5
pins: 1 +Vin, 2 GND, 3 +Vout

## Resistor 10K
designator R?, comment 10K
RES SMD 10K OHM 0.1% 1/16W 0603; Manufacturer: Stackpole Electronics; Manufacturer Part Number: RNCS0603BKE10K0; Description: Res Thin Film 0603 10K Ohm 0.1% 0.063W(1/16W) ±25ppm/C Pad SMD Automotive T/R; Resistance: 10kR; Temperature Coefficient: 25ppm/°C; Max Power Dissipation: 63mW; Código LNLS: MC116138; Supplier 1: Digi-Key; RoHS: Yes; Category: Chip SMD Resistors; Stock 1: 5697; Pricing 1: 1=0,47000, 10=0,36200, 100=0,15220 (USD); Mount: Surface Mount; Case/Package: 0603; Contact Plating: Tin,Matte; Case Code (Metric): 1608; Case Code (Imperial): 0603; Min Operating Temperature: -55°C; Max Operating Temperature: 155°C; Tolerance: 0.1%; Resistor Type: Thin Film; Packaging: Tape and Reel; Number of Terminations: 2; Features: Moisture Resistant,Automotive AEC-Q200; Series: RNCS; Length: 0.061inch; Width: 0.031inch; Height: 0.022inch; Radiation Hardening: No; Lead Free: Lead Free; RoHS Compliant: Yes; ComponentLink1URL: https://datasheet.ciiva.com/2479/sei-rncs-rnch-2479443.pdf?src-supplier=Digi-Key; ComponentLink1Description: https://datasheet.ciiva.com/2479/sei-rncs-rnch-2479443.pdf?src-supplier=Digi-Key; ComponentLink2URL: https://datasheet.ciiva.com/2479/sei-rncs-rnch-2479444.pdf?src-supplier=Digi-Key; ComponentLink2Description: https://datasheet.ciiva.com/2479/sei-rncs-rnch-2479444.pdf?src-supplier=Digi-Key; Supplier Part Number 1: RNCS0603BKE10K0CT-ND
footprint R0603
pins: 1, 2

## Resistor 49.9K
designator R?, comment 49.9K
RES SMD 49.9K OHM 0.1% 1/10W 0603; Manufacturer: Panasonic; Manufacturer Part Number: ERA-3AEB4992V; Resistance: 49.9kR; Power Rating: 100mW; Voltage Rating: 75V; Temperature Coefficient: 25ppm/°C; Código LNLS: MC116139; Supplier 1: Digi-Key; RoHS: Yes; Category: Chip SMD Resistors; Stock 1: 44513; Pricing 1: 1=0,32000, 10=0,27300, 100=0,10660, 1000=0,04460, 2500=0,04089 (USD); Mount: Surface Mount; Case/Package: 0603; Number of Pins: 2; Case Code (Metric): 1608; Case Code (Imperial): 0603; Contact Plating: Tin; Min Operating Temperature: -55°C; Max Operating Temperature: 155°C; Tolerance: 0.1%; Packaging: Tape and Reel; Package Quantity: 1; Resistor Type: Thin Film; Number of Terminations: 2; Termination: SMD/SMT; Max Power Dissipation: 100mW; Voltage Rating (DC): 75V; Features: Automotive AEC-Q200; Series: ERA-3A; Technology: METAL FILM; Resistance Tolerance: 0.1%; Construction: Rectangular; Length: 1.6mm; Width: 0.8mm; Height: 0.45mm; Depth: 0.8mm; Radiation Hardening: No; REACH SVHC: No SVHC; Military Standard: Not; Lead Free: Lead Free; RoHS Compliant: Yes; ComponentLink1URL: https://datasheet.ciiva.com/11812/0900766b80eb1d8c-11812018.pdf?src-supplier=RSComponents; ComponentLink1Description: https://datasheet.ciiva.com/11812/0900766b80eb1d8c-11812018.pdf?src-supplier=RSComponents; ComponentLink2URL: https://datasheet.ciiva.com/29183/451874-da-01-en-widerstand-0603-era-29183904.pdf?src-supplier=Conrad; ComponentLink2Description: https://datasheet.ciiva.com/29183/451874-da-01-en-widerstand-0603-era-29183904.pdf?src-supplier=Conrad; ComponentLink3URL: https://datasheet.ciiva.com/5998/485442-5998330.pdf?src-supplier=Farnell; ComponentLink3Description: https://datasheet.ciiva.com/5998/485442-5998330.pdf?src-supplier=Farnell; ComponentLink4URL: https://datasheet.ciiva.com/5998/485442-5998332.pdf?src-supplier=Farnell; ComponentLink4Description: https://datasheet.ciiva.com/5998/485442-5998332.pdf?src-supplier=Farnell; ComponentLink5URL: https://datasheet.ciiva.com/5998/485442-5998334.pdf?src-supplier=Farnell; ComponentLink5Description: https://datasheet.ciiva.com/5998/485442-5998334.pdf?src-supplier=Farnell; ComponentLink6URL: https://datasheet.ciiva.com/30157/54aoa0000ce26-30157031.pdf?src-supplier=Onlinecomponents.com; ComponentLink6Description: https://datasheet.ciiva.com/30157/54aoa0000ce26-30157031.pdf?src-supplier=Onlinecomponents.com; ComponentLink7URL: https://datasheet.ciiva.com/7861/485442-7861691.pdf?src-supplier=Element14; ComponentLink7Description: https://datasheet.ciiva.com/7861/485442-7861691.pdf?src-supplier=Element14; ComponentLink8URL: https://datasheet.ciiva.com/46422/485442-46422700.pdf?src-supplier=Element14; ComponentLink8Description: https://datasheet.ciiva.com/46422/485442-46422700.pdf?src-supplier=Element14; Supplier Part Number 1: P49.9KDBCT-ND
footprint R0603
pins: 1, 2

## Resistor 160R
designator R?, comment 160R
RES SMD 160R OHM 5% 1/2W 0805; Manufacturer: Panasonic; Manufacturer Part Number: ERJ-P06J161V; Temperature Coefficient: 200ppm/°C; Power Rating: 500mW; Voltage Rating: 150V; Código LNLS: MC115899; Supplier 1: Digi-Key; RoHS: Yes; Category: Chip SMD Resistors; Stock 1: 24271; Pricing 1: 1=0,12000, 10=0,10800, 100=0,04140, 1000=0,01822, 2500=0,01573 (USD); Mount: Surface Mount; Case/Package: 0805; Contact Plating: Tin; Case Code (Imperial): 0805; Case Code (Metric): 2012; Min Operating Temperature: -55°C; Max Operating Temperature: 155°C; Resistance: 160R; Tolerance: 5%; Resistor Type: Thick Film; Package Quantity: 5000; Packaging: Tape and Reel; Number of Terminations: 2; Max Power Dissipation: 500mW; Voltage Rating (DC): 150V; Features: Automotive AEC-Q200; Series: ERJ; Length: 0.079inch; Width: 1.2mm; Height: 0.028inch; Radiation Hardening: No; Lead Free: Contains Lead; RoHS Compliant: Yes; ComponentLink1URL: http://www.mouser.com/ds/2/315/AOA0000CE4-64075.pdf?src-supplier=Mouser; ComponentLink1Description: http://www.mouser.com/ds/2/315/AOA0000CE4-64075.pdf?src-supplier=Mouser; ComponentLink2URL: http://www.onlinecomponents.com/datasheet/erj-p06j161v.aspx?p=44459141&src-supplier=Onlinecomponents.com; ComponentLink2Description: http://www.onlinecomponents.com/datasheet/erj-p06j161v.aspx?p=44459141&src-supplier=Onlinecomponents.com; ComponentLink3URL: http://industrial.panasonic.com/www-data/pdf/AOA0000/AOA0000CE4.pdf?src-supplier=Avnet; ComponentLink3Description: http://industrial.panasonic.com/www-data/pdf/AOA0000/AOA0000CE4.pdf?src-supplier=Avnet; ComponentLink4URL: http://industrial.panasonic.com/www-data/pdf/AOA0000/AOA0000CE4.pdf?src-supplier=Avnet+Europe; ComponentLink4Description: http://industrial.panasonic.com/www-data/pdf/AOA0000/AOA0000CE4.pdf?src-supplier=Avnet+Europe; ComponentLink5URL: https://industrial.panasonic.com/ww/system/files/data/download/catalog/id_fixed-resistors_e_1.pdf?src-supplier=Digi-Key; ComponentLink5Description: https://industrial.panasonic.com/ww/system/files/data/download/catalog/id_fixed-resistors_e_1.pdf?src-supplier=Digi-Key; ComponentLink6URL: https://industrial.panasonic.com/cdbs/www-data/pdf/RDO0000/AOA0000C331.pdf?src-supplier=Digi-Key; ComponentLink6Description: https://industrial.panasonic.com/cdbs/www-data/pdf/RDO0000/AOA0000C331.pdf?src-supplier=Digi-Key; Supplier Part Number 1: P160ADCT-ND
footprint R0805
pins: 1, 2

## Resistor 499R
designator R?, comment 499R
RES SMD 499R OHM 1% 1/10W 0603; Manufacturer: Yageo; Manufacturer Part Number: RC0603FR-07499RL; Temperature Coefficient: 100ppm/°C; Power Rating: 100mW; Voltage Rating: 50V; Código LNLS: MC115895; Supplier 1: Digi-Key; RoHS: Yes; Category: Chip SMD Resistors; Stock 1: 94542; Pricing 1: 1=0,10000, 10=0,02400, 100=0,00970, 1000=0,00436, 2500=0,00378 (USD); Mount: Surface Mount; Case/Package: 0603; Contact Plating: Tin,Matte; Case Code (Metric): 1608; Case Code (Imperial): 0603; Size Code: 0603; Min Operating Temperature: -55°C; Max Operating Temperature: 155°C; Resistance: 499R; Tolerance: 1%; Resistor Type: Thick Film; Package Quantity: 1; Packaging: Tape and Reel; Number of Terminations: 2; Termination: SMD/SMT; Max Power Dissipation: 100mW; Voltage Rating (DC): 50V; Features: Moisture Resistant; Series: RC; Construction: Rectangular; Technology: THICK FILM; Length: 1.6mm; Width: 0.031inch; Height: 0.45mm; Depth: 0.8mm; Radiation Hardening: No; Military Standard: Not; Lead Free: Lead Free; RoHS Compliant: Yes; ComponentLink1URL: https://datasheet.ciiva.com/11808/0900766b80f96399-11808558.pdf?src-supplier=RSComponents; ComponentLink1Description: https://datasheet.ciiva.com/11808/0900766b80f96399-11808558.pdf?src-supplier=RSComponents; ComponentLink2URL: https://datasheet.ciiva.com/2453/pyu-r-int-thick-7-2453955.pdf?src-supplier=Digi-Key; ComponentLink2Description: https://datasheet.ciiva.com/2453/pyu-r-int-thick-7-2453955.pdf?src-supplier=Digi-Key; ComponentLink3URL: https://datasheet.ciiva.com/2453/pyu-r-int-thick-7-2453956.pdf?src-supplier=Digi-Key; ComponentLink3Description: https://datasheet.ciiva.com/2453/pyu-r-int-thick-7-2453956.pdf?src-supplier=Digi-Key; ComponentLink4URL: https://datasheet.ciiva.com/2453/pyu-r-int-thick-7-2453957.pdf?src-supplier=Digi-Key; ComponentLink4Description: https://datasheet.ciiva.com/2453/pyu-r-int-thick-7-2453957.pdf?src-supplier=Digi-Key; ComponentLink5URL: https://datasheet.ciiva.com/12558/rc0603-272842-12558391.pdf?src-supplier=Mouser; ComponentLink5Description: https://datasheet.ciiva.com/12558/rc0603-272842-12558391.pdf?src-supplier=Mouser; ComponentLink6URL: https://datasheet.ciiva.com/8885/pyu-rc0603-51-rohs-l-4-8885483.pdf?src-supplier=Avnet; ComponentLink6Description: https://datasheet.ciiva.com/8885/pyu-rc0603-51-rohs-l-4-8885483.pdf?src-supplier=Avnet; ComponentLink7URL: https://datasheet.ciiva.com/16874/pyu-rc0603-51-rohs-l-4-16874517.pdf?src-supplier=Avnet+Europe; ComponentLink7Description: https://datasheet.ciiva.com/16874/pyu-rc0603-51-rohs-l-4-16874517.pdf?src-supplier=Avnet+Europe; Supplier Part Number 1: 311-499HRCT-ND
footprint R0603
pins: 1, 2

## RS-1215D
designator U?
Module DC-DC 2-OUT 15V/-15V 0.067A/-0.067A 2W 7-Pin SIP Tube; Manufacturer: Recom; Number of Outputs: 2; Nominal Input Voltage: 12V; Voltage - Output 1: 15V; Isolation Voltage: 1kV; Efficiency: 80%; Min Input Voltage: 9V; Max Input Voltage: 18V; Max Output Current: 67mA; Voltage - Output 2: -15V; Isolation: Isolated; Código LNLS: MC115902; Supplier 1: Digi-Key; Manufacturer Part Number: RS-1215D; RoHS: Yes; Category: Board Mount Modules; Stock 1: 312; Pricing 1: 1=18,77000, 5=18,62400, 10=18,48000, 25=18,19120, 50=17,32500, 100=15,88120, 250=15,59248, 440=15,40000 (USD); Mount: Through Hole,PCB; Case/Package: SIP; Number of Pins: 7; Weight: 4.7g; Min Operating Temperature: -40°C; Max Operating Temperature: 85°C; Packaging: Rail/Tube; Output Power: 2W; Max Output Voltage: 15V; Package Quantity: 22; Min Input Voltage (DC): 9V; Max Input Voltage (DC): 18V; Current - Output 1: 67mA; Max Output Power: 2W; Current - Output 2: 67mA; Max Power Dissipation: 2W; Features: SCP; Series: RS; Output Voltage: 15V; Output Current: 67mA; Length: 21.8mm; Width: 9.2mm; Height: 11.1mm; Depth: 9.2mm; Lead Free: Lead Free; RoHS Compliant: Yes; REACH SVHC: No SVHC; ComponentLink1URL: https://datasheet.ciiva.com/11837/0900766b80518158-11837172.pdf?src-supplier=RSComponents; ComponentLink1Description: https://datasheet.ciiva.com/11837/0900766b80518158-11837172.pdf?src-supplier=RSComponents; ComponentLink2URL: https://datasheet.ciiva.com/29336/154838-da-01-en-dc-dc-wandler-29336507.pdf?src-supplier=Conrad; ComponentLink2Description: https://datasheet.ciiva.com/29336/154838-da-01-en-dc-dc-wandler-29336507.pdf?src-supplier=Conrad; ComponentLink3URL: https://datasheet.ciiva.com/2179/rs-s-d-z-2179956.pdf?src-supplier=Digi-Key; ComponentLink3Description: https://datasheet.ciiva.com/2179/rs-s-d-z-2179956.pdf?src-supplier=Digi-Key; ComponentLink4URL: https://datasheet.ciiva.com/3356/ryrs-3356389.pdf?src-supplier=Distrelec; ComponentLink4Description: https://datasheet.ciiva.com/3356/ryrs-3356389.pdf?src-supplier=Distrelec; ComponentLink5URL: https://datasheet.ciiva.com/46404/1842335-46404424.pdf?src-supplier=Element14; ComponentLink5Description: https://datasheet.ciiva.com/46404/1842335-46404424.pdf?src-supplier=Element14; Supplier Part Number 1: 945-1547-5-ND
footprint SIP7 (8-SIP Module (7 Leads))
pins: 1 -Vin, 2 +Vin, 3 CTRL, 5 NC, 6 +Vout, 7 0V, 8 -Vout
text: DC | DC

## TEST POINT 5012
designator TP?, comment Test Point White 5012  (value not drawn)
Manufacturer: Keystone Electronics; Manufacturer Part Number: 5012; Plating: Silver; Material - Insulation: Nylon 46, UL 94V-0; Material - Body: Phosphor Bronze; Código LNLS: MT105229; Supplier 1: Digi-Key; RoHS: RoHS Compliant; Category: Test and Measurement; Stock 1: 132720; Pricing 1: 1=0.37, 10=0.316, 50=0.2298, 100=0.2209, 250=0.19832, 500=0.18932, 1000=0.1616, 2500=0.14424, 5000=0.13523 (USD); Packaging: Bulk; Part Status: Active; Type: PC Test Point, Multipurpose; Mounting Type: 0.063" (1.60mm) Hole Diameter; Color: White; Size / Dimension: 0.125" Dia x 0.320" L (3.18mm x 8.13mm); Height: -; ComponentLink1URL: http://www.keyelco.com/product-pdf.cfm?p=1321; ComponentLink1Description: http://www.keyelco.com/product-pdf.cfm?p=1321; Supplier Part Number 1: 36-5012-ND
footprint TEST POINT (Test Point White 5012)
pins: 1